# EAGLE library part AX520 (library we-power)
Axelite AX520x Step-Up (500kHz) AX5201 - 3A 32V, 3-20V input AX5203 - 2A 68V, 4.5-23V input AX5204 - 2A 32V, 3-20V input
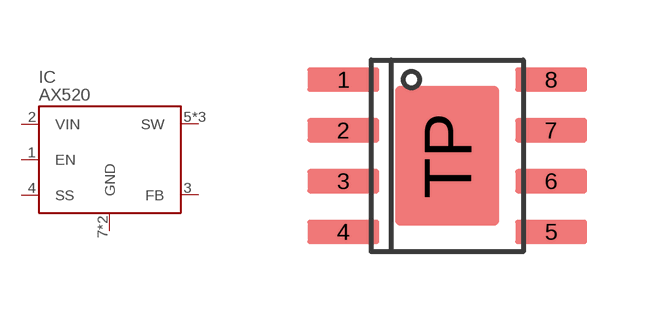
[diagram p6: symbol with the pads of SO08-PAD; footprint SO08-PAD]

Designator prefix IC

## AX5201  [SO08-PAD]
1  EN  pas
2  VIN  pwr
3  FB  pas
4  SS  pas
5  SW  pas
6  SW  pas
7  GND  pwr
8  GND  pwr
TP  SW  pas

## Footprint SO08-PAD (pad centres in mm)
smd 1.8 x 0.6: 1 -2.6,1.905; 2 -2.6,0.635; 3 -2.6,-0.635; 4 -2.6,-1.905; 5 2.6,-1.905; 6 2.6,-0.635; 7 2.6,0.635; 8 2.6,1.905
smd 2.6 x 3.5: TP 0,0